# Altium footprint library TerminalBlock_Phoenix.PcbLib: 126 footprints (part 3 of 8)
Each footprint in its own frame and in the unit in brackets; x right, y up, seen from the top. Pads: shape width x height; smd on the part's side, far side on the other; paste and mask are expansions set on the pad; w line width, h text height; cw(c..) or ccw(c..) is an arc to the next point about the centre after c.
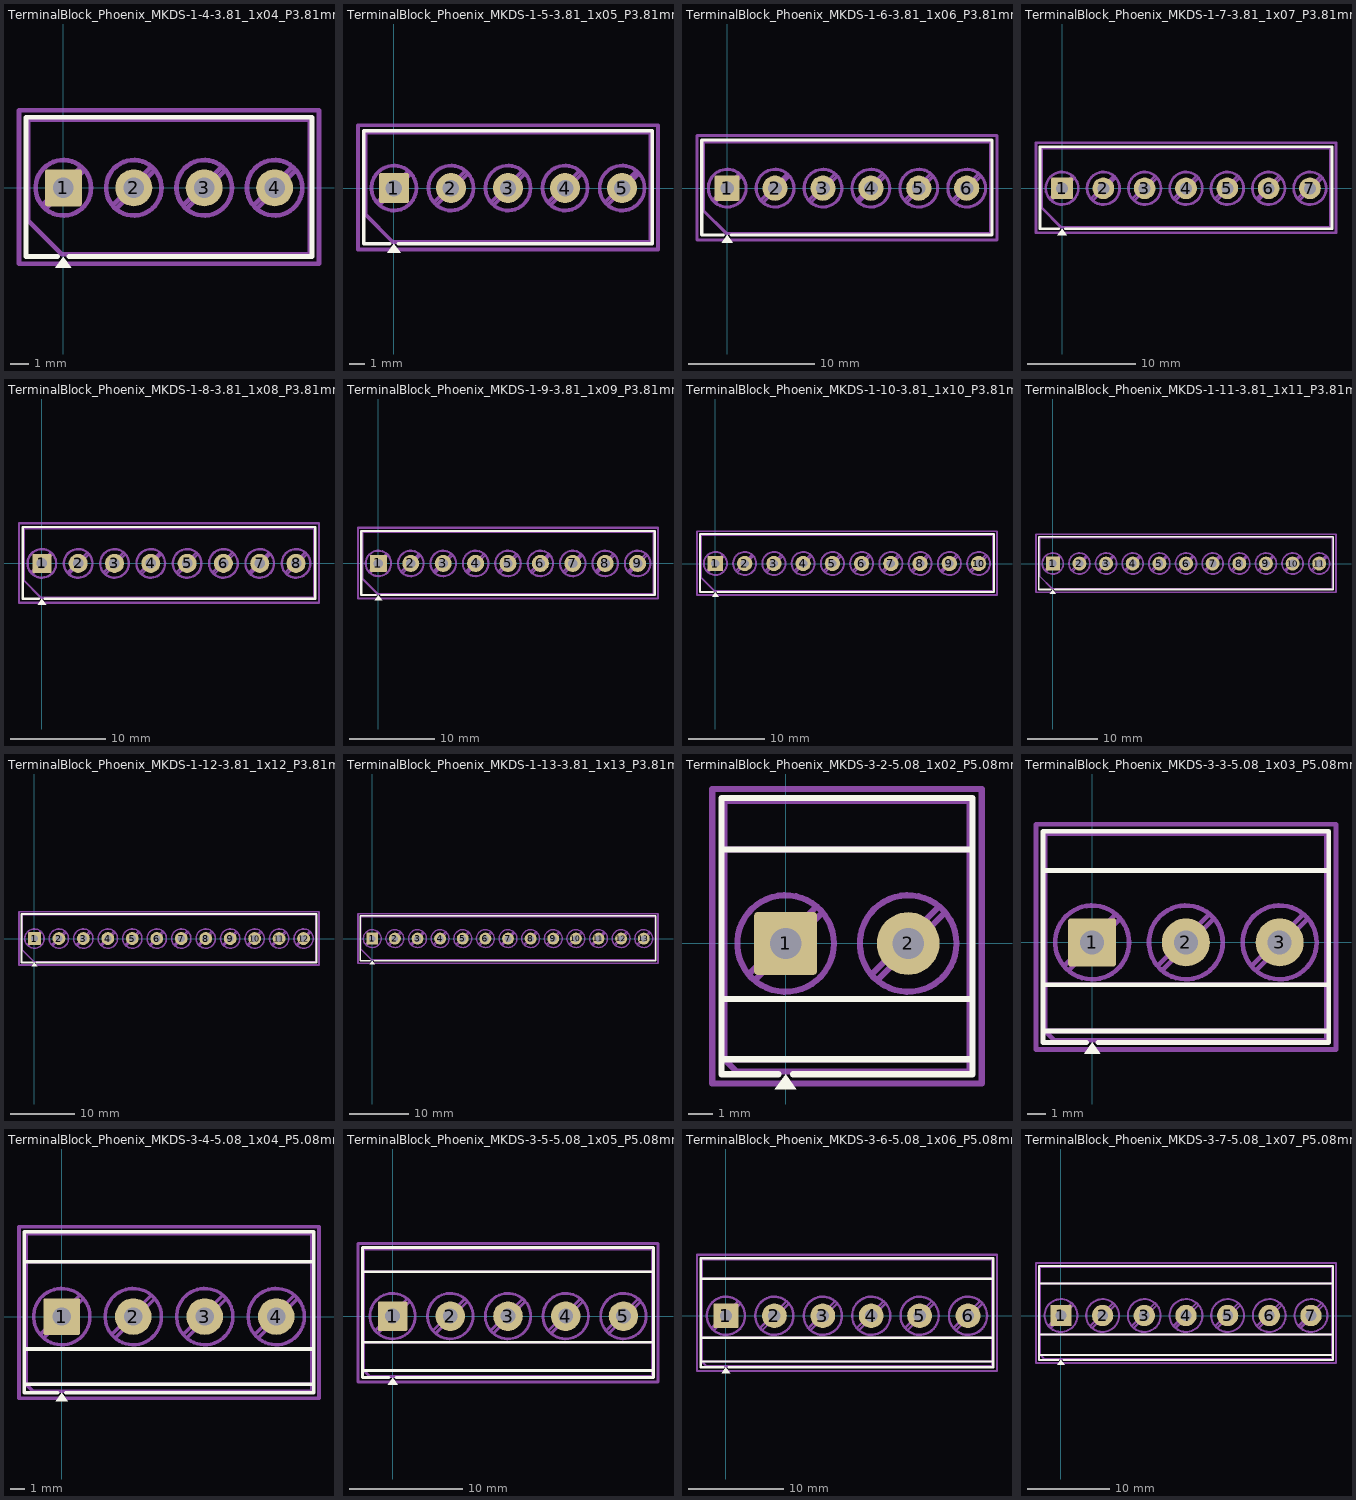
[diagram p2: the footprints below, top view; thin cyan lines are the x and y axes]

## TerminalBlock_Phoenix_MKDS-1-4-3.81_1x04_P3.81mm_Horizontal [mm]
pads (4):
  rrect12% 2x2 hole 1.1: 1(0,0)
  round 2 hole 1.1: 2(3.81,0) 3(7.62,0) 4(11.43,0)
F.SilkS:
  region: 0.44,-4.33 -0.44,-4.33 0,-3.72
  lines w0.254: -0.3,-3.72 -2.02,-3.72 -2.02,3.82 13.45,3.82 13.45,-3.72 0.3,-3.72
F.Fab:
  circle w0.254: c0,0 r1.5
  circle w0.254: c3.81,0 r1.5
  circle w0.254: c7.62,0 r1.5
  circle w0.254: c11.43,0 r1.5
  lines w0.254: -1.138,-0.955 0.955,1.138 ; -0.955,-1.138 1.138,0.955 ; 2.672,-0.955 4.765,1.138 ; 2.855,-1.138 4.948,0.955 ; 6.482,-0.955 8.575,1.138 ; 6.665,-1.138 8.758,0.955 ; 10.292,-0.955 12.385,1.138 ; 10.475,-1.138 12.568,0.955 ; -1.9,-1.775 -1.9,3.7 13.33,3.7 13.33,-3.6 -0.075,-3.6 -1.9,-1.775
  text "'.Designator'" at 1.668,-3.79 h1
F.CrtYd:
  lines w0.254: -2.4,-4.11 -2.4,4.2 13.83,4.2 13.83,-4.11 -2.4,-4.11

## TerminalBlock_Phoenix_MKDS-1-5-3.81_1x05_P3.81mm_Horizontal [mm]
pads (5):
  rrect12% 2x2 hole 1.1: 1(0,0)
  round 2 hole 1.1: 2(3.81,0) 3(7.62,0) 4(11.43,0) 5(15.24,0)
F.SilkS:
  region: 0.44,-4.33 -0.44,-4.33 0,-3.72
  lines w0.254: -0.3,-3.72 -2.02,-3.72 -2.02,3.82 17.26,3.82 17.26,-3.72 0.3,-3.72
F.Fab:
  circle w0.254: c0,0 r1.5
  circle w0.254: c3.81,0 r1.5
  circle w0.254: c7.62,0 r1.5
  circle w0.254: c11.43,0 r1.5
  circle w0.254: c15.24,0 r1.5
  lines w0.254: -1.138,-0.955 0.955,1.138 ; -0.955,-1.138 1.138,0.955 ; 2.672,-0.955 4.765,1.138 ; 2.855,-1.138 4.948,0.955 ; 6.482,-0.955 8.575,1.138 ; 6.665,-1.138 8.758,0.955 ; 10.292,-0.955 12.385,1.138 ; 10.475,-1.138 12.568,0.955 ; 14.102,-0.955 16.195,1.138 ; 14.285,-1.138 16.378,0.955 ; -1.9,-1.775 -1.9,3.7 17.14,3.7 17.14,-3.6 -0.075,-3.6 -1.9,-1.775
  text "'.Designator'" at 3.573,-3.79 h1
F.CrtYd:
  lines w0.254: -2.4,-4.11 -2.4,4.2 17.64,4.2 17.64,-4.11 -2.4,-4.11

## TerminalBlock_Phoenix_MKDS-1-6-3.81_1x06_P3.81mm_Horizontal [mm]
pads (6):
  rrect12% 2x2 hole 1.1: 1(0,0)
  round 2 hole 1.1: 2(3.81,0) 3(7.62,0) 4(11.43,0) 5(15.24,0) 6(19.05,0)
F.SilkS:
  region: 0.44,-4.33 -0.44,-4.33 0,-3.72
  lines w0.254: -0.3,-3.72 -2.02,-3.72 -2.02,3.82 21.07,3.82 21.07,-3.72 0.3,-3.72
F.Fab:
  circle w0.254: c0,0 r1.5
  circle w0.254: c3.81,0 r1.5
  circle w0.254: c7.62,0 r1.5
  circle w0.254: c11.43,0 r1.5
  circle w0.254: c15.24,0 r1.5
  circle w0.254: c19.05,0 r1.5
  lines w0.254: -1.138,-0.955 0.955,1.138 ; -0.955,-1.138 1.138,0.955 ; 2.672,-0.955 4.765,1.138 ; 2.855,-1.138 4.948,0.955 ; 6.482,-0.955 8.575,1.138 ; 6.665,-1.138 8.758,0.955 ; 10.292,-0.955 12.385,1.138 ; 10.475,-1.138 12.568,0.955 ; 14.102,-0.955 16.195,1.138 ; 14.285,-1.138 16.378,0.955 ; 17.912,-0.955 20.005,1.138 ; 18.095,-1.138 20.188,0.955 ; -1.9,-1.775 -1.9,3.7 20.95,3.7 20.95,-3.6 -0.075,-3.6 -1.9,-1.775
  text "'.Designator'" at 5.478,-3.79 h1
F.CrtYd:
  lines w0.254: -2.4,-4.11 -2.4,4.2 21.46,4.2 21.46,-4.11 -2.4,-4.11

## TerminalBlock_Phoenix_MKDS-1-7-3.81_1x07_P3.81mm_Horizontal [mm]
pads (7):
  rrect12% 2x2 hole 1.1: 1(0,0)
  round 2 hole 1.1: 2(3.81,0) 3(7.62,0) 4(11.43,0) 5(15.24,0) 6(19.05,0) 7(22.86,0)
F.SilkS:
  region: 0.44,-4.33 -0.44,-4.33 0,-3.72
  lines w0.254: -0.3,-3.72 -2.02,-3.72 -2.02,3.82 24.88,3.82 24.88,-3.72 0.3,-3.72
F.Fab:
  circle w0.254: c0,0 r1.5
  circle w0.254: c3.81,0 r1.5
  circle w0.254: c7.62,0 r1.5
  circle w0.254: c11.43,0 r1.5
  circle w0.254: c15.24,0 r1.5
  circle w0.254: c19.05,0 r1.5
  circle w0.254: c22.86,0 r1.5
  lines w0.254: -1.138,-0.955 0.955,1.138 ; -0.955,-1.138 1.138,0.955 ; 2.672,-0.955 4.765,1.138 ; 2.855,-1.138 4.948,0.955 ; 6.482,-0.955 8.575,1.138 ; 6.665,-1.138 8.758,0.955 ; 10.292,-0.955 12.385,1.138 ; 10.475,-1.138 12.568,0.955 ; 14.102,-0.955 16.195,1.138 ; 14.285,-1.138 16.378,0.955 ; 17.912,-0.955 20.005,1.138 ; 18.095,-1.138 20.188,0.955 ; 21.722,-0.955 23.815,1.138 ; 21.905,-1.138 23.998,0.955 ; -1.9,-1.775 -1.9,3.7 24.76,3.7 24.76,-3.6 -0.075,-3.6 -1.9,-1.775
  text "'.Designator'" at 7.383,-3.79 h1
F.CrtYd:
  lines w0.254: -2.4,-4.11 -2.4,4.2 25.26,4.2 25.26,-4.11 -2.4,-4.11

## TerminalBlock_Phoenix_MKDS-1-8-3.81_1x08_P3.81mm_Horizontal [mm]
pads (8):
  rrect12% 2x2 hole 1.1: 1(0,0)
  round 2 hole 1.1: 2(3.81,0) 3(7.62,0) 4(11.43,0) 5(15.24,0) 6(19.05,0) 7(22.86,0) 8(26.67,0)
F.SilkS:
  region: 0.44,-4.33 -0.44,-4.33 0,-3.72
  lines w0.254: -0.3,-3.72 -2.02,-3.72 -2.02,3.82 28.69,3.82 28.69,-3.72 0.3,-3.72
F.Fab:
  circle w0.254: c0,0 r1.5
  circle w0.254: c3.81,0 r1.5
  circle w0.254: c7.62,0 r1.5
  circle w0.254: c11.43,0 r1.5
  circle w0.254: c15.24,0 r1.5
  circle w0.254: c19.05,0 r1.5
  circle w0.254: c22.86,0 r1.5
  circle w0.254: c26.67,0 r1.5
  lines w0.254: -1.138,-0.955 0.955,1.138 ; -0.955,-1.138 1.138,0.955 ; 2.672,-0.955 4.765,1.138 ; 2.855,-1.138 4.948,0.955 ; 6.482,-0.955 8.575,1.138 ; 6.665,-1.138 8.758,0.955 ; 10.292,-0.955 12.385,1.138 ; 10.475,-1.138 12.568,0.955 ; 14.102,-0.955 16.195,1.138 ; 14.285,-1.138 16.378,0.955 ; 17.912,-0.955 20.005,1.138 ; 18.095,-1.138 20.188,0.955 ; 21.722,-0.955 23.815,1.138 ; 21.905,-1.138 23.998,0.955 ; 25.532,-0.955 27.625,1.138 ; 25.715,-1.138 27.808,0.955 ; -1.9,-1.775 -1.9,3.7 28.57,3.7 28.57,-3.6 -0.075,-3.6 -1.9,-1.775
  text "'.Designator'" at 9.288,-3.79 h1
F.CrtYd:
  lines w0.254: -2.4,-4.11 -2.4,4.2 29.08,4.2 29.08,-4.11 -2.4,-4.11

## TerminalBlock_Phoenix_MKDS-1-9-3.81_1x09_P3.81mm_Horizontal [mm]
pads (9):
  rrect12% 2x2 hole 1.1: 1(0,0)
  round 2 hole 1.1: 2(3.81,0) 3(7.62,0) 4(11.43,0) 5(15.24,0) 6(19.05,0) 7(22.86,0) 8(26.67,0) 9(30.48,0)
F.SilkS:
  region: 0.44,-4.33 -0.44,-4.33 0,-3.72
  lines w0.254: -0.3,-3.72 -2.02,-3.72 -2.02,3.82 32.5,3.82 32.5,-3.72 0.3,-3.72
F.Fab:
  circle w0.254: c0,0 r1.5
  circle w0.254: c3.81,0 r1.5
  circle w0.254: c7.62,0 r1.5
  circle w0.254: c11.43,0 r1.5
  circle w0.254: c15.24,0 r1.5
  circle w0.254: c19.05,0 r1.5
  circle w0.254: c22.86,0 r1.5
  circle w0.254: c26.67,0 r1.5
  circle w0.254: c30.48,0 r1.5
  lines w0.254: -1.138,-0.955 0.955,1.138 ; -0.955,-1.138 1.138,0.955 ; 2.672,-0.955 4.765,1.138 ; 2.855,-1.138 4.948,0.955 ; 6.482,-0.955 8.575,1.138 ; 6.665,-1.138 8.758,0.955 ; 10.292,-0.955 12.385,1.138 ; 10.475,-1.138 12.568,0.955 ; 14.102,-0.955 16.195,1.138 ; 14.285,-1.138 16.378,0.955 ; 17.912,-0.955 20.005,1.138 ; 18.095,-1.138 20.188,0.955 ; 21.722,-0.955 23.815,1.138 ; 21.905,-1.138 23.998,0.955 ; 25.532,-0.955 27.625,1.138 ; 25.715,-1.138 27.808,0.955 ; 29.342,-0.955 31.435,1.138 ; 29.525,-1.138 31.618,0.955 ; -1.9,-1.775 -1.9,3.7 32.38,3.7 32.38,-3.6 -0.075,-3.6 -1.9,-1.775
  text "'.Designator'" at 11.193,-3.79 h1
F.CrtYd:
  lines w0.254: -2.4,-4.11 -2.4,4.2 32.88,4.2 32.88,-4.11 -2.4,-4.11

## TerminalBlock_Phoenix_MKDS-1-10-3.81_1x10_P3.81mm_Horizontal [mm]
pads (10):
  rrect12% 2x2 hole 1.1: 1(0,0)
  round 2 hole 1.1: 2(3.81,0) 3(7.62,0) 4(11.43,0) 5(15.24,0) 6(19.05,0) 7(22.86,0) 8(26.67,0) 9(30.48,0) 10(34.29,0)
F.SilkS:
  region: 0.44,-4.33 -0.44,-4.33 0,-3.72
  lines w0.254: -0.3,-3.72 -2.02,-3.72 -2.02,3.82 36.31,3.82 36.31,-3.72 0.3,-3.72
F.Fab:
  circle w0.254: c0,0 r1.5
  circle w0.254: c3.81,0 r1.5
  circle w0.254: c7.62,0 r1.5
  circle w0.254: c11.43,0 r1.5
  circle w0.254: c15.24,0 r1.5
  circle w0.254: c19.05,0 r1.5
  circle w0.254: c22.86,0 r1.5
  circle w0.254: c26.67,0 r1.5
  circle w0.254: c30.48,0 r1.5
  circle w0.254: c34.29,0 r1.5
  lines w0.254: -1.138,-0.955 0.955,1.138 ; -0.955,-1.138 1.138,0.955 ; 2.672,-0.955 4.765,1.138 ; 2.855,-1.138 4.948,0.955 ; 6.482,-0.955 8.575,1.138 ; 6.665,-1.138 8.758,0.955 ; 10.292,-0.955 12.385,1.138 ; 10.475,-1.138 12.568,0.955 ; 14.102,-0.955 16.195,1.138 ; 14.285,-1.138 16.378,0.955 ; 17.912,-0.955 20.005,1.138 ; 18.095,-1.138 20.188,0.955 ; 21.722,-0.955 23.815,1.138 ; 21.905,-1.138 23.998,0.955 ; 25.532,-0.955 27.625,1.138 ; 25.715,-1.138 27.808,0.955 ; 29.342,-0.955 31.435,1.138 ; 29.525,-1.138 31.618,0.955 ; 33.152,-0.955 35.245,1.138 ; 33.335,-1.138 35.428,0.955 ; -1.9,-1.775 -1.9,3.7 36.19,3.7 36.19,-3.6 -0.075,-3.6 -1.9,-1.775
  text "'.Designator'" at 13.098,-3.79 h1
F.CrtYd:
  lines w0.254: -2.4,-4.11 -2.4,4.2 36.69,4.2 36.69,-4.11 -2.4,-4.11

## TerminalBlock_Phoenix_MKDS-1-11-3.81_1x11_P3.81mm_Horizontal [mm]
pads (11):
  rrect12% 2x2 hole 1.1: 1(0,0)
  round 2 hole 1.1: 2(3.81,0) 3(7.62,0) 4(11.43,0) 5(15.24,0) 6(19.05,0) 7(22.86,0) 8(26.67,0) 9(30.48,0) 10(34.29,0) 11(38.1,0)
F.SilkS:
  region: 0.44,-4.33 -0.44,-4.33 0,-3.72
  lines w0.254: -0.3,-3.72 -2.02,-3.72 -2.02,3.82 40.12,3.82 40.12,-3.72 0.3,-3.72
F.Fab:
  circle w0.254: c0,0 r1.5
  circle w0.254: c3.81,0 r1.5
  circle w0.254: c7.62,0 r1.5
  circle w0.254: c11.43,0 r1.5
  circle w0.254: c15.24,0 r1.5
  circle w0.254: c19.05,0 r1.5
  circle w0.254: c22.86,0 r1.5
  circle w0.254: c26.67,0 r1.5
  circle w0.254: c30.48,0 r1.5
  circle w0.254: c34.29,0 r1.5
  circle w0.254: c38.1,0 r1.5
  lines w0.254: -1.138,-0.955 0.955,1.138 ; -0.955,-1.138 1.138,0.955 ; 2.672,-0.955 4.765,1.138 ; 2.855,-1.138 4.948,0.955 ; 6.482,-0.955 8.575,1.138 ; 6.665,-1.138 8.758,0.955 ; 10.292,-0.955 12.385,1.138 ; 10.475,-1.138 12.568,0.955 ; 14.102,-0.955 16.195,1.138 ; 14.285,-1.138 16.378,0.955 ; 17.912,-0.955 20.005,1.138 ; 18.095,-1.138 20.188,0.955 ; 21.722,-0.955 23.815,1.138 ; 21.905,-1.138 23.998,0.955 ; 25.532,-0.955 27.625,1.138 ; 25.715,-1.138 27.808,0.955 ; 29.342,-0.955 31.435,1.138 ; 29.525,-1.138 31.618,0.955 ; 33.152,-0.955 35.245,1.138 ; 33.335,-1.138 35.428,0.955 ; 36.962,-0.955 39.055,1.138 ; 37.145,-1.138 39.238,0.955 ; -1.9,-1.775 -1.9,3.7 40,3.7 40,-3.6 -0.075,-3.6 -1.9,-1.775
  text "'.Designator'" at 15.003,-3.79 h1
F.CrtYd:
  lines w0.254: -2.4,-4.11 -2.4,4.2 40.5,4.2 40.5,-4.11 -2.4,-4.11

## TerminalBlock_Phoenix_MKDS-1-12-3.81_1x12_P3.81mm_Horizontal [mm]
pads (12):
  rrect12% 2x2 hole 1.1: 1(0,0)
  round 2 hole 1.1: 2(3.81,0) 3(7.62,0) 4(11.43,0) 5(15.24,0) 6(19.05,0) 7(22.86,0) 8(26.67,0) 9(30.48,0) 10(34.29,0) 11(38.1,0) 12(41.91,0)
F.SilkS:
  region: 0.44,-4.33 -0.44,-4.33 0,-3.72
  lines w0.254: -0.3,-3.72 -2.02,-3.72 -2.02,3.82 43.93,3.82 43.93,-3.72 0.3,-3.72
F.Fab:
  circle w0.254: c0,0 r1.5
  circle w0.254: c3.81,0 r1.5
  circle w0.254: c7.62,0 r1.5
  circle w0.254: c11.43,0 r1.5
  circle w0.254: c15.24,0 r1.5
  circle w0.254: c19.05,0 r1.5
  circle w0.254: c22.86,0 r1.5
  circle w0.254: c26.67,0 r1.5
  circle w0.254: c30.48,0 r1.5
  circle w0.254: c34.29,0 r1.5
  circle w0.254: c38.1,0 r1.5
  circle w0.254: c41.91,0 r1.5
  lines w0.254: -1.138,-0.955 0.955,1.138 ; -0.955,-1.138 1.138,0.955 ; 2.672,-0.955 4.765,1.138 ; 2.855,-1.138 4.948,0.955 ; 6.482,-0.955 8.575,1.138 ; 6.665,-1.138 8.758,0.955 ; 10.292,-0.955 12.385,1.138 ; 10.475,-1.138 12.568,0.955 ; 14.102,-0.955 16.195,1.138 ; 14.285,-1.138 16.378,0.955 ; 17.912,-0.955 20.005,1.138 ; 18.095,-1.138 20.188,0.955 ; 21.722,-0.955 23.815,1.138 ; 21.905,-1.138 23.998,0.955 ; 25.532,-0.955 27.625,1.138 ; 25.715,-1.138 27.808,0.955 ; 29.342,-0.955 31.435,1.138 ; 29.525,-1.138 31.618,0.955 ; 33.152,-0.955 35.245,1.138 ; 33.335,-1.138 35.428,0.955 ; 36.962,-0.955 39.055,1.138 ; 37.145,-1.138 39.238,0.955 ; 40.772,-0.955 42.865,1.138 ; 40.955,-1.138 43.048,0.955 ; -1.9,-1.775 -1.9,3.7 43.81,3.7 43.81,-3.6 -0.075,-3.6 -1.9,-1.775
  text "'.Designator'" at 16.908,-3.79 h1
F.CrtYd:
  lines w0.254: -2.4,-4.11 -2.4,4.2 44.31,4.2 44.31,-4.11 -2.4,-4.11

## TerminalBlock_Phoenix_MKDS-1-13-3.81_1x13_P3.81mm_Horizontal [mm]
pads (13):
  rrect12% 2x2 hole 1.1: 1(0,0)
  round 2 hole 1.1: 2(3.81,0) 3(7.62,0) 4(11.43,0) 5(15.24,0) 6(19.05,0) 7(22.86,0) 8(26.67,0) 9(30.48,0) 10(34.29,0) 11(38.1,0) 12(41.91,0) 13(45.72,0)
F.SilkS:
  region: 0.44,-4.33 -0.44,-4.33 0,-3.72
  lines w0.254: -0.3,-3.72 -2.02,-3.72 -2.02,3.82 47.74,3.82 47.74,-3.72 0.3,-3.72
F.Fab:
  circle w0.254: c0,0 r1.5
  circle w0.254: c3.81,0 r1.5
  circle w0.254: c7.62,0 r1.5
  circle w0.254: c11.43,0 r1.5
  circle w0.254: c15.24,0 r1.5
  circle w0.254: c19.05,0 r1.5
  circle w0.254: c22.86,0 r1.5
  circle w0.254: c26.67,0 r1.5
  circle w0.254: c30.48,0 r1.5
  circle w0.254: c34.29,0 r1.5
  circle w0.254: c38.1,0 r1.5
  circle w0.254: c41.91,0 r1.5
  circle w0.254: c45.72,0 r1.5
  lines w0.254: -1.138,-0.955 0.955,1.138 ; -0.955,-1.138 1.138,0.955 ; 2.672,-0.955 4.765,1.138 ; 2.855,-1.138 4.948,0.955 ; 6.482,-0.955 8.575,1.138 ; 6.665,-1.138 8.758,0.955 ; 10.292,-0.955 12.385,1.138 ; 10.475,-1.138 12.568,0.955 ; 14.102,-0.955 16.195,1.138 ; 14.285,-1.138 16.378,0.955 ; 17.912,-0.955 20.005,1.138 ; 18.095,-1.138 20.188,0.955 ; 21.722,-0.955 23.815,1.138 ; 21.905,-1.138 23.998,0.955 ; 25.532,-0.955 27.625,1.138 ; 25.715,-1.138 27.808,0.955 ; 29.342,-0.955 31.435,1.138 ; 29.525,-1.138 31.618,0.955 ; 33.152,-0.955 35.245,1.138 ; 33.335,-1.138 35.428,0.955 ; 36.962,-0.955 39.055,1.138 ; 37.145,-1.138 39.238,0.955 ; 40.772,-0.955 42.865,1.138 ; 40.955,-1.138 43.048,0.955 ; 44.582,-0.955 46.675,1.138 ; 44.765,-1.138 46.858,0.955 ; -1.9,-1.775 -1.9,3.7 47.62,3.7 47.62,-3.6 -0.075,-3.6 -1.9,-1.775
  text "'.Designator'" at 18.813,-3.79 h1
F.CrtYd:
  lines w0.254: -2.4,-4.11 -2.4,4.2 48.12,4.2 48.12,-4.11 -2.4,-4.11

## TerminalBlock_Phoenix_MKDS-3-2-5.08_1x02_P5.08mm_Horizontal [mm]
pads (2):
  rrect10% 2.6x2.6 hole 1.3: 1(0,0)
  round 2.6 hole 1.3: 2(5.08,0)
F.SilkS:
  region: 0.44,-6.03 -0.44,-6.03 0,-5.42
  lines w0.254: -2.66,-4.8 7.74,-4.8 ; -2.66,-2.3 7.74,-2.3 ; -2.66,3.9 7.74,3.9 ; -0.3,-5.42 -2.66,-5.42 -2.66,6.02 7.74,6.02 7.74,-5.42 0.3,-5.42
F.Fab:
  circle w0.254: c0,0 r2
  circle w0.254: c5.08,0 r2
  lines w0.254: -2.54,-2.3 7.62,-2.3 ; -2.54,3.9 7.62,3.9 ; -1.517,-1.273 1.273,1.517 ; -1.273,-1.517 1.517,1.273 ; 3.563,-1.273 6.353,1.517 ; 3.807,-1.517 6.597,1.273 ; 7.62,-4.8 -2.54,-4.8 ; -2.54,-4.8 -2.54,5.9 7.62,5.9 7.62,-5.3 -2.04,-5.3 -2.54,-4.8
  text "'.Designator'" at -1.507,-3.94 h1
F.CrtYd:
  lines w0.254: -3.04,-5.8 -3.04,6.4 8.13,6.4 8.13,-5.8 -3.04,-5.8

## TerminalBlock_Phoenix_MKDS-3-3-5.08_1x03_P5.08mm_Horizontal [mm]
pads (3):
  rrect10% 2.6x2.6 hole 1.3: 1(0,0)
  round 2.6 hole 1.3: 2(5.08,0) 3(10.16,0)
F.SilkS:
  region: 0.44,-6.03 -0.44,-6.03 0,-5.42
  lines w0.254: -2.66,-4.8 12.82,-4.8 ; -2.66,-2.3 12.82,-2.3 ; -2.66,3.9 12.82,3.9 ; -0.3,-5.42 -2.66,-5.42 -2.66,6.02 12.82,6.02 12.82,-5.42 0.3,-5.42
F.Fab:
  circle w0.254: c0,0 r2
  circle w0.254: c5.08,0 r2
  circle w0.254: c10.16,0 r2
  lines w0.254: -2.54,-2.3 12.7,-2.3 ; -2.54,3.9 12.7,3.9 ; -1.517,-1.273 1.273,1.517 ; -1.273,-1.517 1.517,1.273 ; 3.563,-1.273 6.353,1.517 ; 3.807,-1.517 6.597,1.273 ; 8.643,-1.273 11.433,1.517 ; 8.887,-1.517 11.677,1.273 ; 12.7,-4.8 -2.54,-4.8 ; -2.54,-4.8 -2.54,5.9 12.7,5.9 12.7,-5.3 -2.04,-5.3 -2.54,-4.8
  text "'.Designator'" at 1.033,-3.94 h1
F.CrtYd:
  lines w0.254: -3.04,-5.8 -3.04,6.4 13.21,6.4 13.21,-5.8 -3.04,-5.8

## TerminalBlock_Phoenix_MKDS-3-4-5.08_1x04_P5.08mm_Horizontal [mm]
pads (4):
  rrect10% 2.6x2.6 hole 1.3: 1(0,0)
  round 2.6 hole 1.3: 2(5.08,0) 3(10.16,0) 4(15.24,0)
F.SilkS:
  region: 0.44,-6.03 -0.44,-6.03 0,-5.42
  lines w0.254: -2.66,-4.8 17.9,-4.8 ; -2.66,-2.3 17.9,-2.3 ; -2.66,3.9 17.9,3.9 ; -0.3,-5.42 -2.66,-5.42 -2.66,6.02 17.9,6.02 17.9,-5.42 0.3,-5.42
F.Fab:
  circle w0.254: c0,0 r2
  circle w0.254: c5.08,0 r2
  circle w0.254: c10.16,0 r2
  circle w0.254: c15.24,0 r2
  lines w0.254: -2.54,-2.3 17.78,-2.3 ; -2.54,3.9 17.78,3.9 ; -1.517,-1.273 1.273,1.517 ; -1.273,-1.517 1.517,1.273 ; 3.563,-1.273 6.353,1.517 ; 3.807,-1.517 6.597,1.273 ; 8.643,-1.273 11.433,1.517 ; 8.887,-1.517 11.677,1.273 ; 13.723,-1.273 16.513,1.517 ; 13.967,-1.517 16.757,1.273 ; 17.78,-4.8 -2.54,-4.8 ; -2.54,-4.8 -2.54,5.9 17.78,5.9 17.78,-5.3 -2.04,-5.3 -2.54,-4.8
  text "'.Designator'" at 3.573,-3.94 h1
F.CrtYd:
  lines w0.254: -3.04,-5.8 -3.04,6.4 18.28,6.4 18.28,-5.8 -3.04,-5.8

## TerminalBlock_Phoenix_MKDS-3-5-5.08_1x05_P5.08mm_Horizontal [mm]
pads (5):
  rrect10% 2.6x2.6 hole 1.3: 1(0,0)
  round 2.6 hole 1.3: 2(5.08,0) 3(10.16,0) 4(15.24,0) 5(20.32,0)
F.SilkS:
  region: 0.44,-6.03 -0.44,-6.03 0,-5.42
  lines w0.254: -2.66,-4.8 22.98,-4.8 ; -2.66,-2.3 22.98,-2.3 ; -2.66,3.9 22.98,3.9 ; -0.3,-5.42 -2.66,-5.42 -2.66,6.02 22.98,6.02 22.98,-5.42 0.3,-5.42
F.Fab:
  circle w0.254: c0,0 r2
  circle w0.254: c5.08,0 r2
  circle w0.254: c10.16,0 r2
  circle w0.254: c15.24,0 r2
  circle w0.254: c20.32,0 r2
  lines w0.254: -2.54,-2.3 22.86,-2.3 ; -2.54,3.9 22.86,3.9 ; -1.517,-1.273 1.273,1.517 ; -1.273,-1.517 1.517,1.273 ; 3.563,-1.273 6.353,1.517 ; 3.807,-1.517 6.597,1.273 ; 8.643,-1.273 11.433,1.517 ; 8.887,-1.517 11.677,1.273 ; 13.723,-1.273 16.513,1.517 ; 13.967,-1.517 16.757,1.273 ; 18.803,-1.273 21.593,1.517 ; 19.047,-1.517 21.837,1.273 ; 22.86,-4.8 -2.54,-4.8 ; -2.54,-4.8 -2.54,5.9 22.86,5.9 22.86,-5.3 -2.04,-5.3 -2.54,-4.8
  text "'.Designator'" at 6.113,-3.94 h1
F.CrtYd:
  lines w0.254: -3.04,-5.8 -3.04,6.4 23.36,6.4 23.36,-5.8 -3.04,-5.8

## TerminalBlock_Phoenix_MKDS-3-6-5.08_1x06_P5.08mm_Horizontal [mm]
pads (6):
  rrect10% 2.6x2.6 hole 1.3: 1(0,0)
  round 2.6 hole 1.3: 2(5.08,0) 3(10.16,0) 4(15.24,0) 5(20.32,0) 6(25.4,0)
F.SilkS:
  region: 0.44,-6.03 -0.44,-6.03 0,-5.42
  lines w0.254: -2.66,-4.8 28.06,-4.8 ; -2.66,-2.3 28.06,-2.3 ; -2.66,3.9 28.06,3.9 ; -0.3,-5.42 -2.66,-5.42 -2.66,6.02 28.06,6.02 28.06,-5.42 0.3,-5.42
F.Fab:
  circle w0.254: c0,0 r2
  circle w0.254: c5.08,0 r2
  circle w0.254: c10.16,0 r2
  circle w0.254: c15.24,0 r2
  circle w0.254: c20.32,0 r2
  circle w0.254: c25.4,0 r2
  lines w0.254: -2.54,-2.3 27.94,-2.3 ; -2.54,3.9 27.94,3.9 ; -1.517,-1.273 1.273,1.517 ; -1.273,-1.517 1.517,1.273 ; 3.563,-1.273 6.353,1.517 ; 3.807,-1.517 6.597,1.273 ; 8.643,-1.273 11.433,1.517 ; 8.887,-1.517 11.677,1.273 ; 13.723,-1.273 16.513,1.517 ; 13.967,-1.517 16.757,1.273 ; 18.803,-1.273 21.593,1.517 ; 19.047,-1.517 21.837,1.273 ; 23.883,-1.273 26.673,1.517 ; 24.127,-1.517 26.917,1.273 ; 27.94,-4.8 -2.54,-4.8 ; -2.54,-4.8 -2.54,5.9 27.94,5.9 27.94,-5.3 -2.04,-5.3 -2.54,-4.8
  text "'.Designator'" at 8.653,-3.94 h1
F.CrtYd:
  lines w0.254: -3.04,-5.8 -3.04,6.4 28.44,6.4 28.44,-5.8 -3.04,-5.8

## TerminalBlock_Phoenix_MKDS-3-7-5.08_1x07_P5.08mm_Horizontal [mm]
pads (7):
  rrect10% 2.6x2.6 hole 1.3: 1(0,0)
  round 2.6 hole 1.3: 2(5.08,0) 3(10.16,0) 4(15.24,0) 5(20.32,0) 6(25.4,0) 7(30.48,0)
F.SilkS:
  region: 0.44,-6.03 -0.44,-6.03 0,-5.42
  lines w0.254: -2.66,-4.8 33.14,-4.8 ; -2.66,-2.3 33.14,-2.3 ; -2.66,3.9 33.14,3.9 ; -0.3,-5.42 -2.66,-5.42 -2.66,6.02 33.14,6.02 33.14,-5.42 0.3,-5.42
F.Fab:
  circle w0.254: c0,0 r2
  circle w0.254: c5.08,0 r2
  circle w0.254: c10.16,0 r2
  circle w0.254: c15.24,0 r2
  circle w0.254: c20.32,0 r2
  circle w0.254: c25.4,0 r2
  circle w0.254: c30.48,0 r2
  lines w0.254: -2.54,-2.3 33.02,-2.3 ; -2.54,3.9 33.02,3.9 ; -1.517,-1.273 1.273,1.517 ; -1.273,-1.517 1.517,1.273 ; 3.563,-1.273 6.353,1.517 ; 3.807,-1.517 6.597,1.273 ; 8.643,-1.273 11.433,1.517 ; 8.887,-1.517 11.677,1.273 ; 13.723,-1.273 16.513,1.517 ; 13.967,-1.517 16.757,1.273 ; 18.803,-1.273 21.593,1.517 ; 19.047,-1.517 21.837,1.273 ; 23.883,-1.273 26.673,1.517 ; 24.127,-1.517 26.917,1.273 ; 28.963,-1.273 31.753,1.517 ; 29.207,-1.517 31.997,1.273 ; 33.02,-4.8 -2.54,-4.8 ; -2.54,-4.8 -2.54,5.9 33.02,5.9 33.02,-5.3 -2.04,-5.3 -2.54,-4.8
  text "'.Designator'" at 11.193,-3.94 h1
F.CrtYd:
  lines w0.254: -3.04,-5.8 -3.04,6.4 33.53,6.4 33.53,-5.8 -3.04,-5.8